# EAGLE library part BLM2010E (library Misc ICs)
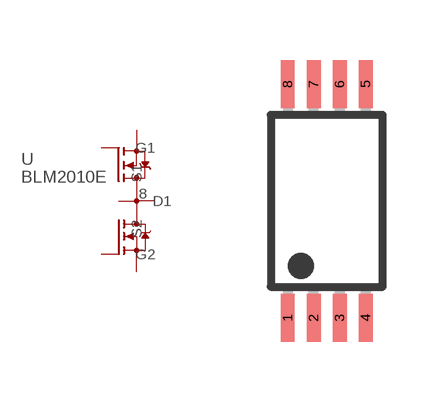
[diagram p1: symbol with the pads of TSSOP8; footprint TSSOP8]

Designator prefix -

## BLM2010E  [TSSOP8]
1  D1  pas
2  S1  pas
3  S1  pas
4  G1  pas
5  G2  pas
6  S2  pas
7  S2  pas
8  D2  pas

## Footprint TSSOP8 (pad centres in mm)
Thin Shrink Small Outline Package package type ST
smd 0.35 x 1.2: 1 -0.975,-2.925; 2 -0.325,-2.925; 3 0.325,-2.925; 4 0.975,-2.925; 5 0.975,2.925; 6 0.325,2.925; 7 -0.325,2.925; 8 -0.975,2.925